# EAGLE library part RFID (library ID Innovations)
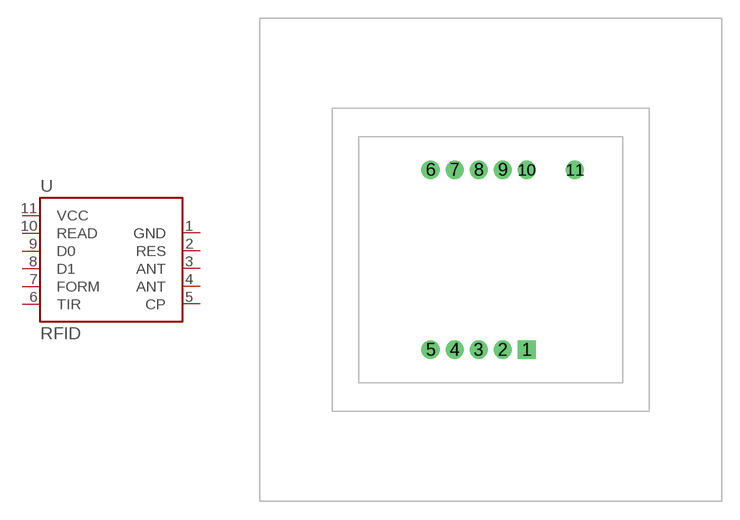
[diagram p0: symbol with the pads of ID_PACKAGE; footprint ID_PACKAGE]

Designator prefix U

## RFIDALL  [ID_PACKAGE]
1  GND
2  RES
3  ANT
4  ANT
5  CP
6  TIR
7  FORM
8  D1
9  D0
10  READ
11  VCC

## Footprint ID_PACKAGE (pad centres in mm)
drill 0.8 pad 1.524 square: 1 3,-7.5
drill 0.8 pad 1.524: 2 1,-7.5; 3 -1,-7.5; 4 -3,-7.5; 5 -5,-7.5; 6 -5,7.5; 7 -3,7.5; 8 -1,7.5; 9 1,7.5; 10 3,7.5; 11 7,7.5